# Altium footprint library PcbLib1.PcbLib: 3 footprints
Each footprint in its own frame and in the unit in brackets; x right, y up, seen from the top. Pads: shape width x height; smd on the part's side, far side on the other; paste and mask are expansions set on the pad; w line width, h text height; cw(c..) or ccw(c..) is an arc to the next point about the centre after c.
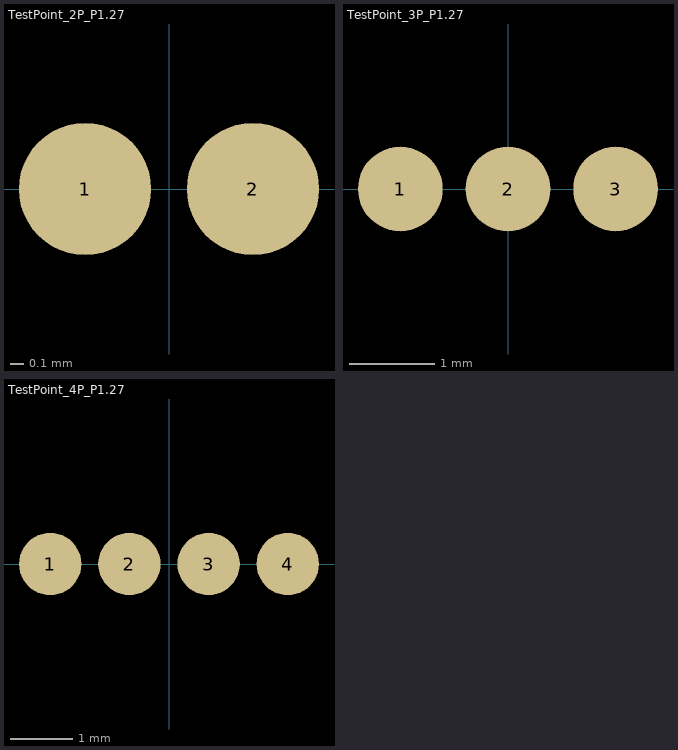
[diagram p0: the footprints below, top view; thin cyan lines are the x and y axes]

## TestPoint_2P_P1.27 [mm]
pads (2):
  round 1 smd mask+0.05: 1(-0.635,0) 2(0.635,0)

## TestPoint_3P_P1.27 [mm]
pads (3):
  round 1 smd mask+0.05: 1(-1.27,0) 2(0,0) 3(1.27,0)

## TestPoint_4P_P1.27 [mm]
pads (4):
  round 1 smd mask+0.05: 1(-1.905,0) 2(-0.635,0) 3(0.635,0) 4(1.905,0)